# Altium schematic symbol library Raspberry_PI_3_model.Schlib: 1 symbol
Pins are listed as number, name and electrical type; pins without a type are passive.

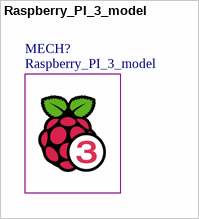
[diagram p0: symbol Raspberry_PI_3_model]

## Raspberry_PI_3_model
designator MECH?